# Altium footprint library SMB (DO-214AA)Z.PcbLib: 1 footprints
Each footprint in its own frame and in the unit in brackets; x right, y up, seen from the top. Pads: shape width x height; smd on the part's side, far side on the other; paste and mask are expansions set on the pad; w line width, h text height; cw(c..) or ccw(c..) is an arc to the next point about the centre after c.
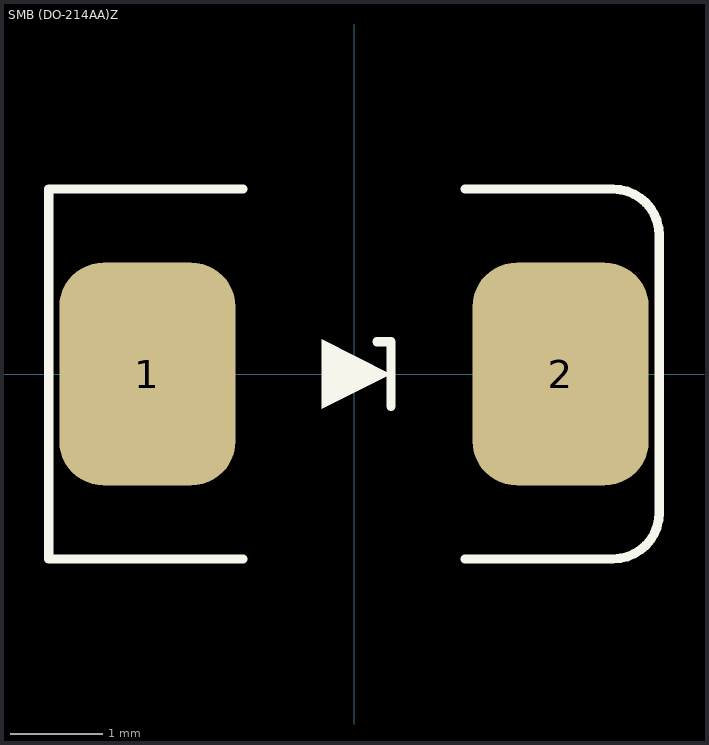
[diagram p0: the footprint, top view; thin cyan lines are the x and y axes]

## SMB (DO-214AA)Z [mil] "DO-214-AA/SMB; 2 C-Bend Leads; Body 5.3 x 3.6 mm, inc. leads (LxW)"
height 100
pads (2):
  rrect50% 75x95 smd: 1(-88,0) 2(88,0)
Top Overlay:
  region: -13.78,14.76 15.75,0 -13.78,-14.76
  lines w3.94: -47.24,-78.74 -130,-78.74 -130,78.74 -47.24,78.74 ; 9.84,13.78 15.75,13.78 15.75,-13.78 ; 47.24,-78.74 110.31,-78.74 ccw(c110.31,-59.06) 130,-59.06 130,58.98 ; 47.24,78.74 110.24,78.74 110.31,78.74 cw(c110.31,59.06) 130,59.06
3D body "SMB (DO-214AA).STEP": height 86.65, standoff -1.97, extent -104.33,-72.84 104.33,72.83